# EAGLE library part WE-FA (library wuerth-elektronik)
SMD EMI Suppression Ferrite Bead Arrays WE-FA - 4 SMD ferrites in one component - Broadband screening because of the core material NiZn - Extremely low cross talk
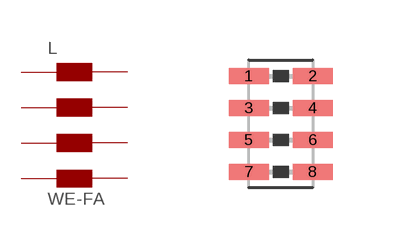
[diagram p0: symbol with the pads of WE-FA_S_1206; footprint WE-FA_S_1206]

Designator prefix L

## WE-FA  [WE-FA_S_1206]
1  8  pas
2  7  pas
3  6  pas
4  5  pas
5  4  pas
6  3  pas
7  2  pas
8  1  pas

## Footprint WE-FA_S_1206 (pad centres in mm)
SMD EMI Supression Ferrite Bead Array
smd 1 x 0.4: 1 -2.07,1.2; 2 -0.47,1.2; 3 -2.07,0.4; 4 -0.47,0.4; 5 -2.07,-0.4; 6 -0.47,-0.4; 7 -2.07,-1.2; 8 -0.47,-1.2